# EAGLE library part XR3403D (library XR3403D)
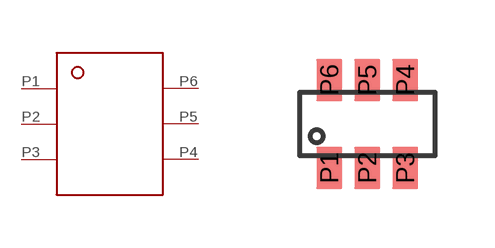
[diagram p0: symbol with the pads of XR3403D; footprint XR3403D]

Designator prefix -

## XR3403D  [XR3403D]
P1  P$1
P2  P$2
P3  P$3
P4  P$4
P5  P$5
P6  P$6

## Footprint XR3403D (pad centres in mm)
smd 0.65 x 1.06: P1 0,0; P2 0.95,0; P3 1.9,0; P4 1.9,2.2; P5 0.95,2.2; P6 0,2.2